# Altium schematic symbol library ProjectLibrary.SchLib: 10 symbols
Pins are listed as number, name and electrical type; pins without a type are passive.

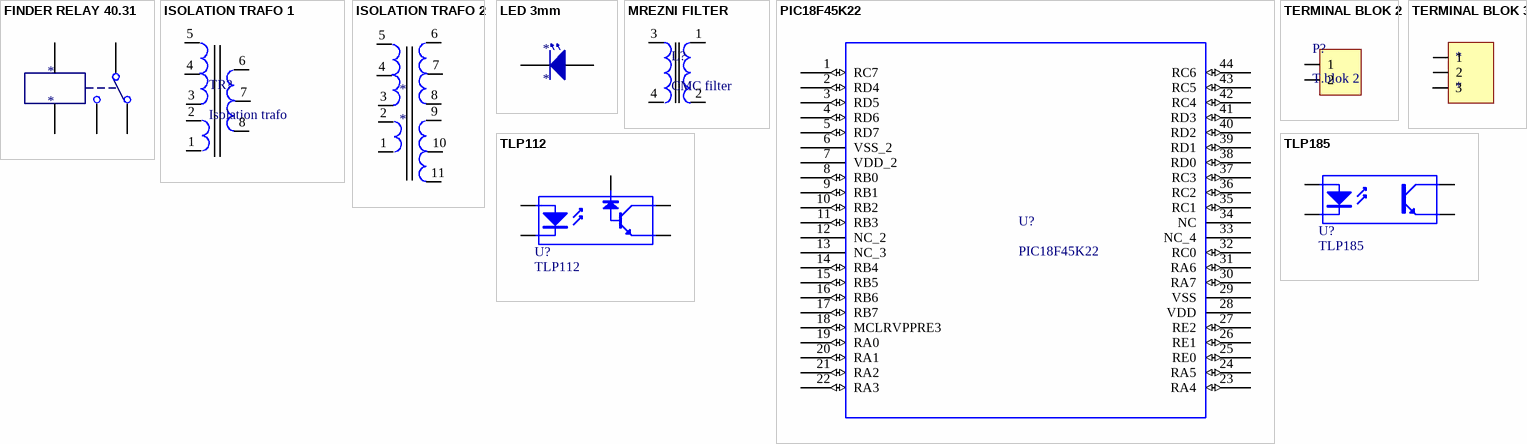
[diagram p0: symbols FINDER RELAY 40.31 to TLP185]

## FINDER RELAY 40.31
designator *
footprint FINDER 40.31 (Finder raly tip 40.31)
pins: 1, 2, 3, 4, 5

## ISOLATION TRAFO 1
designator TR?, comment Isolation trafo
SMPS small ferite toroide trafo
footprint ISOLATION TRAFO 1 (SMPS ferit toroid trafo)
pins: 1, 2, 3, 4, 5, 6, 7, 8

## ISOLATION TRAFO 2
designator *
footprint ISOLATION TRAFO 2 (SMPS ferite toroid trafo)
pins: 1, 2, 3, 4, 5, 6, 7, 8, 9, 10, 11

## LED 3mm
designator *
footprint LED 3mm
pins: 1, 2

## MREZNI FILTER
designator L?, comment CMC filter
footprint MREZNI FILTER (Filter mrežnih smetnji)
pins: 1, 2, 3, 4

## PIC18F45K22
designator U?
8 bit pic microcontroller
footprint PIC18F45K22 (8 bit PIC microcontroller)
pins: 1 RC7 (io), 2 RD4 (io), 3 RD5 (io), 4 RD6 (io), 5 RD7 (io), 6 VSS_2 (power), 7 VDD_2 (power), 8 RB0 (io), 9 RB1 (io), 10 RB2 (io), 11 RB3 (io), 12 NC_2, 13 NC_3, 14 RB4 (io), 15 RB5 (io), 16 RB6 (io), 17 RB7 (io), 18 MCLRVPPRE3 (io), 19 RA0 (io), 20 RA1 (io), 21 RA2 (io), 22 RA3 (io), 23 RA4 (io), 24 RA5 (io), 25 RE0 (io), 26 RE1 (io), 27 RE2 (io), 28 VDD (power), 29 VSS (power), 30 RA7 (io), 31 RA6 (io), 32 RC0 (io), 33 NC_4, 34 NC, 35 RC1 (io), 36 RC2 (io), 37 RC3 (io), 38 RD0 (io), 39 RD1 (io), 40 RD2 (io), 41 RD3 (io), 42 RC4 (io), 43 RC5 (io), 44 RC6 (io)

## TERMINAL BLOK 2
designator P?, comment T.blok 2
Terminal blok konektor 3,5 mm
footprint TERMINAL BLOK 2 (Terminal blok 3,5mm)
pins: 1, 2

## TERMINAL BLOK 3
designator *
footprint TERMINAL BLOK 3 (Terminal blok konektor 3 pina)
pins: 1, 2, 3

## TLP112
designator U?
5 Pin Mini Flat Pack Optocoupler; Published: 24-Mar-1999; LatestRevisionDate: 04-Mar-2005; LatestRevisionNote: PCB Footprint replaced, Sch pins re-numbered.; DatasheetVersion: Apr-2004; PackageReference: SOP5(6); Publisher: Altium Limited; PackageDescription: Small Outline; 6 Leads (1 Absent); Body Width 4.4 mm; Pitch 1.27 mm
simulation model OPTOISO (Spice Subcircuit)
footprint SOP5 (Mini flat coupler)
pins: 1 A "Anode", 3 K "Cathode", 4 E "Emitter", 5 C "Collector", 6 K "Cathode"

## TLP185
designator U?
4 Pin Mini Flat Pack Optocoupler; Published: 24-Mar-1999; LatestRevisionDate: 04-Mar-2005; LatestRevisionNote: PCB Footprint replaced, Sch pins re-numbered.; DatasheetVersion: Apr-2004; PackageReference: SOP5(6); Publisher: Altium Limited; PackageDescription: Small Outline; 6 Leads (1 Absent); Body Width 4.4 mm; Pitch 1.27 mm
simulation model OPTOISO (Spice Subcircuit)
footprint SOP4 (Mini flat coupler)
pins: 1 A "Anode", 3 K "Cathode", 4 E "Emitter", 6 C "Collector"